# Altium schematic symbol library 2EDL8024G3CXTMA1.SchLib: 2 symbols
Pins are listed as number, name and electrical type; pins without a type are passive.

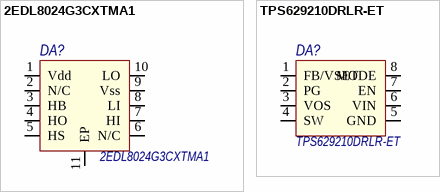
[diagram p0: symbols 2EDL8024G3CXTMA1 to TPS629210DRLR-ET]

## 2EDL8024G3CXTMA1
designator DA?
Драйвер мосфет транзисторов; Parameter 1: *
footprint PG-VSON-10-4 (SON, 10-Leads, Body 3,00x3,00mm, Pitch 0,50mm, Thermal Pad 2,05x1,70mm, IPC Medium Density)
pins: 1 Vdd, 2 N/C, 3 HB, 4 HO, 5 HS, 6 N/C, 7 HI, 8 LI, 9 Vss, 10 LO, 11 EP

## TPS629210DRLR-ET
designator DA?
Понижающий преобразователь постоянного тока; Parameter 1: *
footprint TSSOP50P160X60-8N (TSSOP, 8-Leads, Body 2,10x1,20mm, Pitch 0,50mm, IPC Medium Density)
pins: 1 FB/VSET, 2 PG, 3 VOS, 4 SW, 5 GND, 6 VIN, 7 EN, 8 MODE